# EAGLE library part ATMEGA328P2 (library arduino)
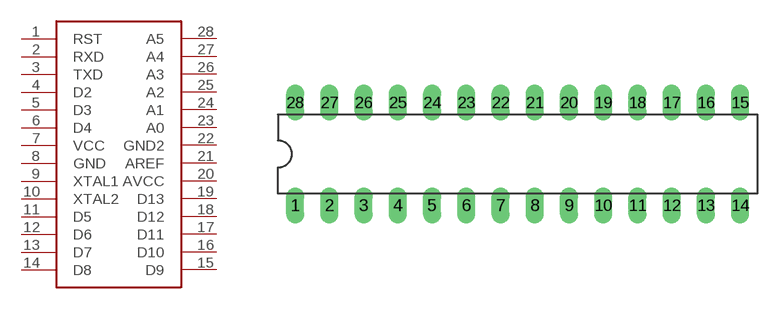
[diagram p1: symbol with the pads of DIL28-3; footprint DIL28-3]

Designator prefix -

## ATMEGA328P2  [DIL28-3]
1  RST
2  RXD
3  TXD
4  D2
5  D3
6  D4
7  VCC
8  GND
9  XTAL1
10  XTAL2
11  D5
12  D6
13  D7
14  D8
15  D9
16  D10
17  D11
18  D12
19  D13
20  AVCC
21  AREF
22  GND2
23  A0
24  A1
25  A2
26  A3
27  A4
28  A5

## Footprint DIL28-3 (pad centres in mm)
Dual In Line Package Small
drill 0.813 long: 1 -16.51,-3.81; 2 -13.97,-3.81; 3 -11.43,-3.81; 4 -8.89,-3.81; 5 -6.35,-3.81; 6 -3.81,-3.81; 7 -1.27,-3.81; 8 1.27,-3.81; 9 3.81,-3.81; 10 6.35,-3.81; 11 8.89,-3.81; 12 11.43,-3.81; 13 13.97,-3.81; 14 16.51,-3.81; 15 16.51,3.81; 16 13.97,3.81; 17 11.43,3.81; 18 8.89,3.81; 19 6.35,3.81; 20 3.81,3.81; 21 1.27,3.81; 22 -1.27,3.81; 23 -3.81,3.81; 24 -6.35,3.81; 25 -8.89,3.81; 26 -11.43,3.81; 27 -13.97,3.81; 28 -16.51,3.81